# EAGLE library part LTC4151IMS#PBF (library LTC4151IMS#PBF)
Linear Technology LTC4151IMS#PBF, Dual Voltage Detector, 7 80 V, 10-Pin MSOP Source: Datasheet <http://www.linear.com/docs/26089>
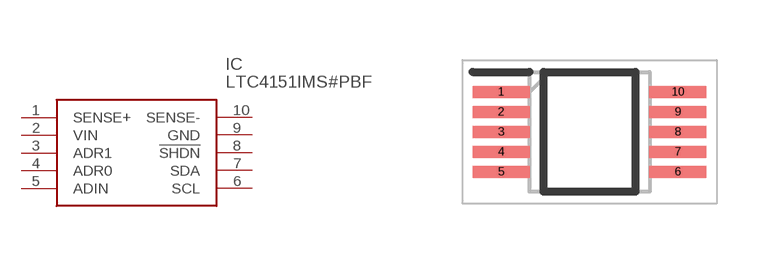
[diagram p0: symbol with the pads of SOP50P490X110-10N; footprint SOP50P490X110-10N]

Designator prefix IC

## LTC4151IMS#PBF (Description: Linear Technology LTC4151IMS#PBF, Dual Voltage Detector, 7 80 V, 10-Pin MSOP; Height: 1.1mm; Manufacturer_Name: Analog Devices; Manufacturer_Part_Number: LTC4151IMS#PBF; Mouser_Part_Number: 584-LTC4151IMS#PBF; Mouser_Price-Stock: https://www.mouser.co.uk/ProductDetail/Analog-Devices/LTC4151IMSPBF?qs=hVkxg5c3xu%2F2n6Fpk%2FlWrA%3D%3D)  [SOP50P490X110-10N]
1  SENSE+
2  VIN
3  ADR1
4  ADR0
5  ADIN
6  SCL
7  SDA
8  !SHDN
9  GND
10  SENSE-

## Footprint SOP50P490X110-10N (pad centres in mm)
MS Package 10-Lead Plastic MSOP (Reference LTC DWG # 05-08-1661
smd 1.425 x 0.3: 1 -2.212,1; 2 -2.212,0.5; 3 -2.212,0; 4 -2.212,-0.5; 5 -2.212,-1; 6 2.212,-1; 7 2.212,-0.5; 8 2.212,0; 9 2.212,0.5; 10 2.212,1